# Altium schematic symbol library LT8616EUDE.SchLib: 1 symbol
Pins are listed as number, name and electrical type; pins without a type are passive.

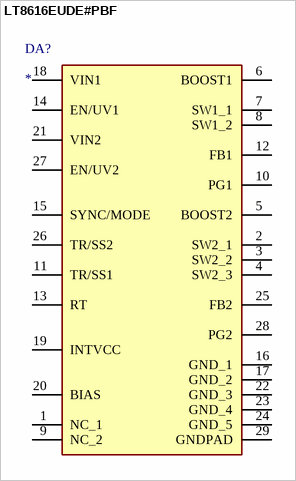
[diagram p0: symbol LT8616EUDE#PBF]

## LT8616EUDE#PBF
designator DA?
Integrated Circuit; Manufacturer_Name: Analog Devices; Manufacturer_Part_Number: LT8616EUDE#PBF; Datasheet Link: https://componentsearchengine.com/Datasheets/2/LT8616EUDE#PBF.pdf; Height: 0.8mm; Mouser Part Number: 584-LT8616EUDE#PBF; Mouser Price/Stock: https://www.mouser.co.uk/ProductDetail/Analog-Devices/LT8616EUDEPBF?qs=oahfZPh6IALJUPj4V2FTRQ%3D%3D; Arrow Part Number: LT8616EUDE#PBF; Arrow Price/Stock: https://www.arrow.com/en/products/lt8616eudepbf/analog-devices
footprint QFN50P300X600X80-29N-D
pins: 1 NC_1, 2 SW2_1, 3 SW2_2, 4 SW2_3, 5 BOOST2, 6 BOOST1, 7 SW1_1, 8 SW1_2, 9 NC_2, 10 PG1, 11 TR/SS1, 12 FB1, 13 RT, 14 EN/UV1, 15 SYNC/MODE, 16 GND_1, 17 GND_2, 18 VIN1, 19 INTVCC, 20 BIAS, 21 VIN2, 22 GND_3, 23 GND_4, 24 GND_5, 25 FB2, 26 TR/SS2, 27 EN/UV2, 28 PG2, 29 GNDPAD